# Altium integrated library TI Amplifiers and Linear Special Function Amplifier.IntLib: 708 symbols (part 14 of 47)
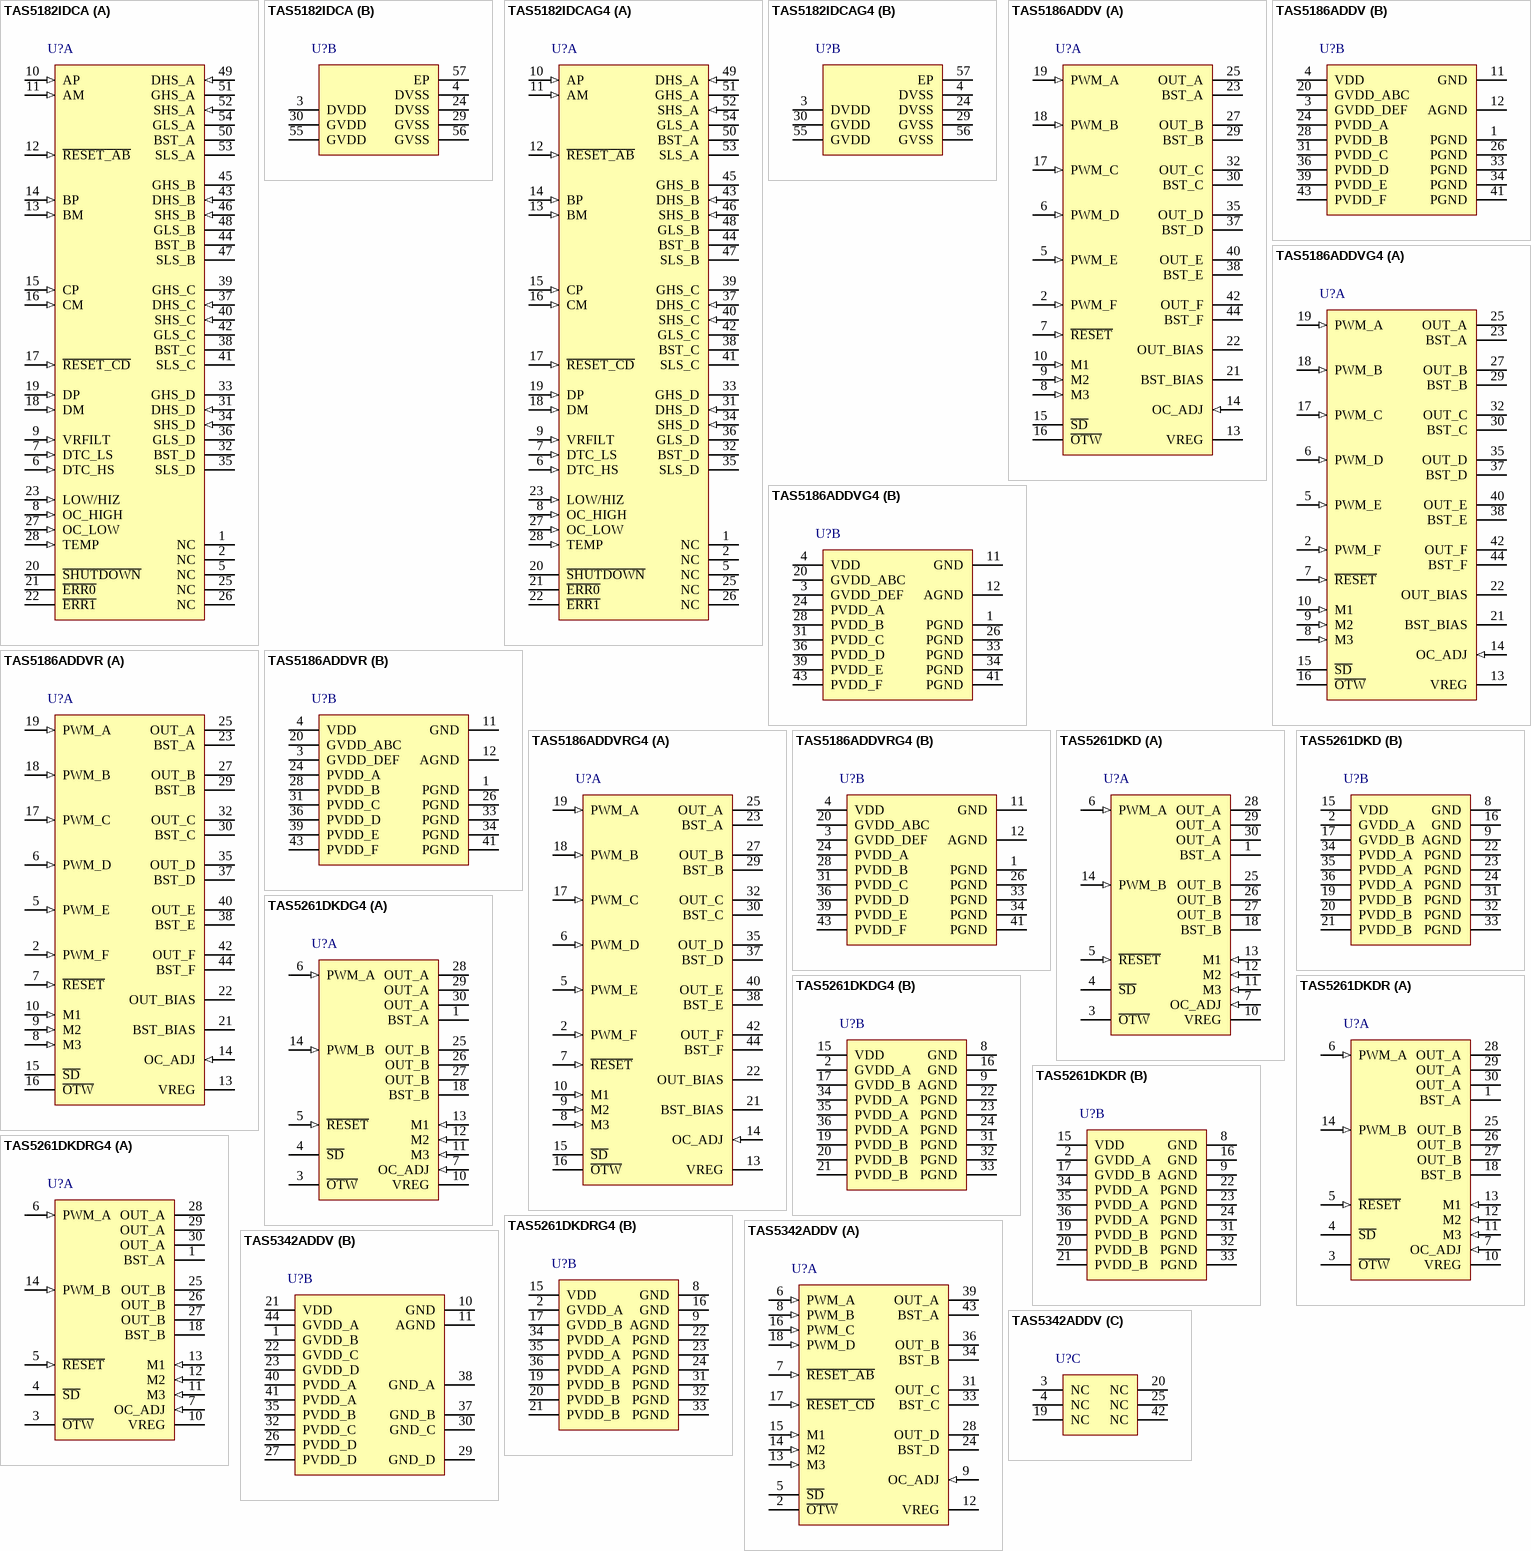
[diagram p52: symbols TAS5182IDCA to TAS5342ADDV]

## TAS5186ADDVRG4
designator U?
210 W (6-Channel) Digital Amplifier Power Stage, 0 to 70 degC, 44-pin SOP (DDV44), Green (RoHS & no Sb/Br); Manufacturer: Texas Instruments; PartNumber: TAS5186ADDVRG4; Analog Supply Max [V]: 13.2; Analog Supply Min [V]: 10.8; Input Type: PWM; Max. Number of Speaker Outputs: 6; SubFamily: Mid/High-Power Amplifier; DatasheetVersion: SLES156; PackageVersion: 4206011/G, 06/2011; PackageReference: DDV44-7600X3850TP; PackageDescription: 44-Pin Plastic Small Outline, Body 14 x 6.1 mm, Pitch 0.635 mm; Supplier 1: Digi-Key; Supplier Part Number 1: TAS5186ADDVRG4-ND; Supplier 2: Newark; Supplier Part Number 2: 67K8432; Supplier 3: Mouser; Supplier Part Number 3: 595-TAS5186ADDVRG4; Eco-Plan: Green (RoHS & no Sb/Br); Mounting Technology: Surface Mount; ComponentLink1Description: Manufacturer URL; ComponentLink1URL: http://www.ti.com/; ComponentLink2Description: Datasheet; ComponentLink2URL: http://www.ti.com/general/docs/lit/getliterature.tsp?genericPartNumber=TAS5186A&fileType=pdf; ComponentLink3Description: Package Specification; ComponentLink3URL: http://www.ti.com/lit/ds/symlink/tas5142.pdf
footprint TI-DDV44-7600X3850TP _N (SOP, 44-Leads, Body 14x6.1mm, Pitch 0.635mm, Thermal Pad 8.3x4.2mm, IPC Medium Density)
footprint TI-DDV44-7600X3850TP _L (SOP, 44-Leads, Body 14x6.1mm, Pitch 0.635mm, Thermal Pad 8.3x4.2mm, IPC High Density)
footprint TI-DDV44-7600X3850TP _M (SOP, 44-Leads, Body 14x6.1mm, Pitch 0.635mm, Thermal Pad 8.3x4.2mm, IPC Low Density)
part A pins: 2 PWM_F (in) "PWM input signal for half-bridge F", 5 PWM_E (in) "PWM input signal for half-bridge E", 6 PWM_D (in) "PWM input signal for half-bridge D", 7 ~{RESET} (in) "Reset signal (active-low logic)", 8 M3 (in) "Mode selection pin", 9 M2 (in) "Mode selection pin", 10 M1 (in) "Mode selection pin", 13 VREG "Digital regulator supply filter pin, output", 14 OC_ADJ (in) "Overcurrent threshold programming pin, resistor to ground required", 15 ~{SD} (oc) "Shutdown open-drain output signal, active-low", 16 ~{OTW} (oc) "Overtemperature warning open-drain output signal, active-low", 17 PWM_C (in) "PWM input signal for half-bridge C", 18 PWM_B (in) "PWM input signal for half-bridge B", 19 PWM_A (in) "PWM input signal for half-bridge A", 21 BST_BIAS "BIAS bootstrap supply, external capacitor to OUT_BIAS required", 22 OUT_BIAS (hiz) "BIAS half-bridge output pin", 23 BST_A "HS bootstrap supply (BST), capacitor to OUT_A required", 25 OUT_A (hiz) "Output, half-bridge A, satellite", 27 OUT_B (hiz) "Output, half-bridge B, satellite", 29 BST_B "HS bootstrap supply (BST), external capacitor to OUT_B required", 30 BST_C "HS bootstrap supply (BST), external capacitor to OUT_C required", 32 OUT_C (hiz) "Output, half-bridge C, subwoofer", 35 OUT_D (hiz) "Output, half-bridge D, satellite", 37 BST_D "HS bootstrap supply (BST), external capacitor to OUT_D required", 38 BST_E "HS bootstrap supply (BST), external capacitor to OUT_E required", 40 OUT_E (hiz) "Output, half-bridge E, satellite", 42 OUT_F (hiz) "Output, half-bridge F, satellite", 44 BST_F "HS bootstrap supply (BST), external capacitor to OUT_F required"
part B pins: 1 PGND (power) "Power ground", 3 GVDD_DEF (power) "Gate drive voltage supply", 4 VDD (power) "Power supply for digital voltage regulator", 11 GND (power) "Chip ground", 12 AGND (power) "Analog ground", 20 GVDD_ABC (power) "Gate drive voltage supply", 24 PVDD_A (power) "Power-supply input for half-bridge A", 26 PGND (power) "Power ground", 28 PVDD_B (power) "Power-supply input for half-bridge B", 31 PVDD_C (power) "Power-supply input for half-bridge C", 33 PGND (power) "Power ground", 34 PGND (power) "Power ground", 36 PVDD_D (power) "Power-supply input for half-bridge D", 39 PVDD_E (power) "Power-supply input for half-bridge E", 41 PGND (power) "Power ground", 43 PVDD_F (power) "Power-supply input for half-bridge F"

## TAS5261DKD
designator U?
315 W Mono Digital Amplifier Power Stage, 0 to 70 degC, 36-pin SOP (DKD36), Green (RoHS & no Sb/Br); Manufacturer: Texas Instruments; PartNumber: TAS5261DKD; Analog Supply Max [V]: 13.2; Analog Supply Min [V]: 10.8; Input Type: PWM; SubFamily: Mid/High-Power Amplifier; DatasheetVersion: SLES188; PackageVersion: 4204421-2/K, 06/2012; PackageReference: DKD36; PackageDescription: 36-Pin Plastic Small Outline, Body 15.9 x 11 mm, Pitch 0.65 mm; Supplier 1: Digi-Key; Supplier Part Number 1: 296-20729-5-ND; Supplier 2: Farnell; Supplier Part Number 2: 1564920; Supplier 3: Newark; Supplier Part Number 3: 18M3142; Supplier 4: Mouser; Supplier Part Number 4: 595-TAS5261DKD; Eco-Plan: Green (RoHS & no Sb/Br); Mounting Technology: Surface Mount; ComponentLink1Description: Manufacturer URL; ComponentLink1URL: http://www.ti.com/; ComponentLink2Description: Datasheet; ComponentLink2URL: http://www.ti.com/general/docs/lit/getliterature.tsp?genericPartNumber=TAS5261&fileType=pdf; ComponentLink3Description: Package Specification; ComponentLink3URL: http://www.ti.com/lit/ds/symlink/tas5121i.pdf
footprint TI-DKD36_N (SOP, 36-Leads, Body 16x11.1mm, Pitch 0.65mm, IPC Medium Density)
footprint TI-DKD36_L (SOP, 36-Leads, Body 16x11.1mm, Pitch 0.65mm, IPC High Density)
footprint TI-DKD36_M (SOP, 36-Leads, Body 16x11.1mm, Pitch 0.65mm, IPC Low Density)
part A pins: 1 BST_A "Bootstrap, A side", 3 ~{OTW} (oc) "Overtemperature warning. Open drain, active low.", 4 ~{SD} (oc) "Shutdown. Open drain, active low.", 5 ~{RESET} (in) "Reset. Active low.", 6 PWM_A (in) "PWM for half-bridge A", 7 OC_ADJ (in) "Overcurrent threshold programming", 10 VREG "Internal voltage regulator", 11 M3 (in) "Reserved", 12 M2 (in) "Mode-selection 2 (MSB)", 13 M1 (in) "Mode-selection 1 (LSB)", 14 PWM_B (in) "PWM Input for half-bridge B", 18 BST_B "Bootstrap, B side", 25 OUT_B (hiz) "Output, half-bridge B", 26 OUT_B (hiz) "Output, half-bridge B", 27 OUT_B (hiz) "Output, half-bridge B", 28 OUT_A (hiz) "Output, half-bridge A", 29 OUT_A (hiz) "Output, half-bridge A", 30 OUT_A (hiz) "Output, half-bridge A"
part B pins: 2 GVDD_A (power) "Gate-drive voltage supply, A side", 8 GND (power) "Power ground", 9 AGND (power) "Analog ground", 15 VDD (power) "Input power supply", 16 GND (power) "Power ground", 17 GVDD_B (power) "Gate-drive voltage supply, B side", 19 PVDD_B (power) "PVDD supply for half-bridge B", 20 PVDD_B (power) "PVDD supply for half-bridge B", 21 PVDD_B (power) "PVDD supply for half-bridge B", 22 PGND (power) "Power ground", 23 PGND (power) "Power ground", 24 PGND (power) "Power ground", 31 PGND (power) "Power ground", 32 PGND (power) "Power ground", 33 PGND (power) "Power ground", 34 PVDD_A (power) "PVDD supply for half-bridge A", 35 PVDD_A (power) "PVDD supply for half-bridge A", 36 PVDD_A (power) "PVDD supply for half-bridge A"

## TAS5261DKDG4
designator U?
315 W Mono Digital Amplifier Power Stage, 0 to 70 degC, 36-pin SOP (DKD36), Green (RoHS & no Sb/Br); Manufacturer: Texas Instruments; PartNumber: TAS5261DKDG4; Analog Supply Max [V]: 13.2; Analog Supply Min [V]: 10.8; Input Type: PWM; SubFamily: Mid/High-Power Amplifier; DatasheetVersion: SLES188; PackageVersion: 4204421-2/K, 06/2012; PackageReference: DKD36; PackageDescription: 36-Pin Plastic Small Outline, Body 15.9 x 11 mm, Pitch 0.65 mm; Supplier 1: Digi-Key; Supplier Part Number 1: TAS5261DKDG4-ND; Supplier 2: Newark; Supplier Part Number 2: 18M3143; Supplier 3: Mouser; Supplier Part Number 3: 595-TAS5261DKDG4; Eco-Plan: Green (RoHS & no Sb/Br); Mounting Technology: Surface Mount; ComponentLink1Description: Manufacturer URL; ComponentLink1URL: http://www.ti.com/; ComponentLink2Description: Datasheet; ComponentLink2URL: http://www.ti.com/general/docs/lit/getliterature.tsp?genericPartNumber=TAS5261&fileType=pdf; ComponentLink3Description: Package Specification; ComponentLink3URL: http://www.ti.com/lit/ds/symlink/tas5121i.pdf
footprint TI-DKD36_N (SOP, 36-Leads, Body 16x11.1mm, Pitch 0.65mm, IPC Medium Density)
footprint TI-DKD36_L (SOP, 36-Leads, Body 16x11.1mm, Pitch 0.65mm, IPC High Density)
footprint TI-DKD36_M (SOP, 36-Leads, Body 16x11.1mm, Pitch 0.65mm, IPC Low Density)
part A pins: 1 BST_A "Bootstrap, A side", 3 ~{OTW} (oc) "Overtemperature warning. Open drain, active low.", 4 ~{SD} (oc) "Shutdown. Open drain, active low.", 5 ~{RESET} (in) "Reset. Active low.", 6 PWM_A (in) "PWM for half-bridge A", 7 OC_ADJ (in) "Overcurrent threshold programming", 10 VREG "Internal voltage regulator", 11 M3 (in) "Reserved", 12 M2 (in) "Mode-selection 2 (MSB)", 13 M1 (in) "Mode-selection 1 (LSB)", 14 PWM_B (in) "PWM Input for half-bridge B", 18 BST_B "Bootstrap, B side", 25 OUT_B (hiz) "Output, half-bridge B", 26 OUT_B (hiz) "Output, half-bridge B", 27 OUT_B (hiz) "Output, half-bridge B", 28 OUT_A (hiz) "Output, half-bridge A", 29 OUT_A (hiz) "Output, half-bridge A", 30 OUT_A (hiz) "Output, half-bridge A"
part B pins: 2 GVDD_A (power) "Gate-drive voltage supply, A side", 8 GND (power) "Power ground", 9 AGND (power) "Analog ground", 15 VDD (power) "Input power supply", 16 GND (power) "Power ground", 17 GVDD_B (power) "Gate-drive voltage supply, B side", 19 PVDD_B (power) "PVDD supply for half-bridge B", 20 PVDD_B (power) "PVDD supply for half-bridge B", 21 PVDD_B (power) "PVDD supply for half-bridge B", 22 PGND (power) "Power ground", 23 PGND (power) "Power ground", 24 PGND (power) "Power ground", 31 PGND (power) "Power ground", 32 PGND (power) "Power ground", 33 PGND (power) "Power ground", 34 PVDD_A (power) "PVDD supply for half-bridge A", 35 PVDD_A (power) "PVDD supply for half-bridge A", 36 PVDD_A (power) "PVDD supply for half-bridge A"

## TAS5261DKDR
designator U?
315 W Mono Digital Amplifier Power Stage, 0 to 70 degC, 36-pin SOP (DKD36), Green (RoHS & no Sb/Br); Manufacturer: Texas Instruments; PartNumber: TAS5261DKDR; Analog Supply Max [V]: 13.2; Analog Supply Min [V]: 10.8; Input Type: PWM; SubFamily: Mid/High-Power Amplifier; DatasheetVersion: SLES188; PackageVersion: 4204421-2/K, 06/2012; PackageReference: DKD36; PackageDescription: 36-Pin Plastic Small Outline, Body 15.9 x 11 mm, Pitch 0.65 mm; Supplier 1: Digi-Key; Supplier Part Number 1: TAS5261DKDR-ND; Supplier 2: Mouser; Supplier Part Number 2: 595-TAS5261DKDR; Eco-Plan: Green (RoHS & no Sb/Br); Mounting Technology: Surface Mount; ComponentLink1Description: Manufacturer URL; ComponentLink1URL: http://www.ti.com/; ComponentLink2Description: Datasheet; ComponentLink2URL: http://www.ti.com/general/docs/lit/getliterature.tsp?genericPartNumber=TAS5261&fileType=pdf; ComponentLink3Description: Package Specification; ComponentLink3URL: http://www.ti.com/lit/ds/symlink/tas5121i.pdf
footprint TI-DKD36_N (SOP, 36-Leads, Body 16x11.1mm, Pitch 0.65mm, IPC Medium Density)
footprint TI-DKD36_L (SOP, 36-Leads, Body 16x11.1mm, Pitch 0.65mm, IPC High Density)
footprint TI-DKD36_M (SOP, 36-Leads, Body 16x11.1mm, Pitch 0.65mm, IPC Low Density)
part A pins: 1 BST_A "Bootstrap, A side", 3 ~{OTW} (oc) "Overtemperature warning. Open drain, active low.", 4 ~{SD} (oc) "Shutdown. Open drain, active low.", 5 ~{RESET} (in) "Reset. Active low.", 6 PWM_A (in) "PWM for half-bridge A", 7 OC_ADJ (in) "Overcurrent threshold programming", 10 VREG "Internal voltage regulator", 11 M3 (in) "Reserved", 12 M2 (in) "Mode-selection 2 (MSB)", 13 M1 (in) "Mode-selection 1 (LSB)", 14 PWM_B (in) "PWM Input for half-bridge B", 18 BST_B "Bootstrap, B side", 25 OUT_B (hiz) "Output, half-bridge B", 26 OUT_B (hiz) "Output, half-bridge B", 27 OUT_B (hiz) "Output, half-bridge B", 28 OUT_A (hiz) "Output, half-bridge A", 29 OUT_A (hiz) "Output, half-bridge A", 30 OUT_A (hiz) "Output, half-bridge A"
part B pins: 2 GVDD_A (power) "Gate-drive voltage supply, A side", 8 GND (power) "Power ground", 9 AGND (power) "Analog ground", 15 VDD (power) "Input power supply", 16 GND (power) "Power ground", 17 GVDD_B (power) "Gate-drive voltage supply, B side", 19 PVDD_B (power) "PVDD supply for half-bridge B", 20 PVDD_B (power) "PVDD supply for half-bridge B", 21 PVDD_B (power) "PVDD supply for half-bridge B", 22 PGND (power) "Power ground", 23 PGND (power) "Power ground", 24 PGND (power) "Power ground", 31 PGND (power) "Power ground", 32 PGND (power) "Power ground", 33 PGND (power) "Power ground", 34 PVDD_A (power) "PVDD supply for half-bridge A", 35 PVDD_A (power) "PVDD supply for half-bridge A", 36 PVDD_A (power) "PVDD supply for half-bridge A"

## TAS5261DKDRG4
designator U?
315 W Mono Digital Amplifier Power Stage, 0 to 70 degC, 36-pin SOP (DKD36), Green (RoHS & no Sb/Br); Manufacturer: Texas Instruments; PartNumber: TAS5261DKDRG4; Analog Supply Max [V]: 13.2; Analog Supply Min [V]: 10.8; Input Type: PWM; SubFamily: Mid/High-Power Amplifier; DatasheetVersion: SLES188; PackageVersion: 4204421-2/K, 06/2012; PackageReference: DKD36; PackageDescription: 36-Pin Plastic Small Outline, Body 15.9 x 11 mm, Pitch 0.65 mm; Supplier 1: Digi-Key; Supplier Part Number 1: TAS5261DKDRG4-ND; Supplier 2: Mouser; Supplier Part Number 2: 595-TAS5261DKDRG4; Eco-Plan: Green (RoHS & no Sb/Br); Mounting Technology: Surface Mount; ComponentLink1Description: Manufacturer URL; ComponentLink1URL: http://www.ti.com/; ComponentLink2Description: Datasheet; ComponentLink2URL: http://www.ti.com/general/docs/lit/getliterature.tsp?genericPartNumber=TAS5261&fileType=pdf; ComponentLink3Description: Package Specification; ComponentLink3URL: http://www.ti.com/lit/ds/symlink/tas5121i.pdf
footprint TI-DKD36_N (SOP, 36-Leads, Body 16x11.1mm, Pitch 0.65mm, IPC Medium Density)
footprint TI-DKD36_L (SOP, 36-Leads, Body 16x11.1mm, Pitch 0.65mm, IPC High Density)
footprint TI-DKD36_M (SOP, 36-Leads, Body 16x11.1mm, Pitch 0.65mm, IPC Low Density)
part A pins: 1 BST_A "Bootstrap, A side", 3 ~{OTW} (oc) "Overtemperature warning. Open drain, active low.", 4 ~{SD} (oc) "Shutdown. Open drain, active low.", 5 ~{RESET} (in) "Reset. Active low.", 6 PWM_A (in) "PWM for half-bridge A", 7 OC_ADJ (in) "Overcurrent threshold programming", 10 VREG "Internal voltage regulator", 11 M3 (in) "Reserved", 12 M2 (in) "Mode-selection 2 (MSB)", 13 M1 (in) "Mode-selection 1 (LSB)", 14 PWM_B (in) "PWM Input for half-bridge B", 18 BST_B "Bootstrap, B side", 25 OUT_B (hiz) "Output, half-bridge B", 26 OUT_B (hiz) "Output, half-bridge B", 27 OUT_B (hiz) "Output, half-bridge B", 28 OUT_A (hiz) "Output, half-bridge A", 29 OUT_A (hiz) "Output, half-bridge A", 30 OUT_A (hiz) "Output, half-bridge A"
part B pins: 2 GVDD_A (power) "Gate-drive voltage supply, A side", 8 GND (power) "Power ground", 9 AGND (power) "Analog ground", 15 VDD (power) "Input power supply", 16 GND (power) "Power ground", 17 GVDD_B (power) "Gate-drive voltage supply, B side", 19 PVDD_B (power) "PVDD supply for half-bridge B", 20 PVDD_B (power) "PVDD supply for half-bridge B", 21 PVDD_B (power) "PVDD supply for half-bridge B", 22 PGND (power) "Power ground", 23 PGND (power) "Power ground", 24 PGND (power) "Power ground", 31 PGND (power) "Power ground", 32 PGND (power) "Power ground", 33 PGND (power) "Power ground", 34 PVDD_A (power) "PVDD supply for half-bridge A", 35 PVDD_A (power) "PVDD supply for half-bridge A", 36 PVDD_A (power) "PVDD supply for half-bridge A"

## TAS5342ADDV
designator U?
100 W Stereo Digital Amplifier Power Stage, 0 to 70 degC, 44-pin SOP (DDV44), Green (RoHS & no Sb/Br); Manufacturer: Texas Instruments; PartNumber: TAS5342ADDV; Analog Supply Max [V]: 13.2; Analog Supply Min [V]: 10.8; Input Type: PWM; Max. Number of Speaker Outputs: 4; SubFamily: Mid/High-Power Amplifier; DatasheetVersion: SLAS623; PackageVersion: 4206011/G, 06/2011; PackageReference: DDV44-7600X3850TP; PackageDescription: 44-Pin Plastic Small Outline, Body 14 x 6.1 mm, Pitch 0.635 mm; Supplier 1: Digi-Key; Supplier Part Number 1: TAS5342ADDV-ND; Supplier 2: Mouser; Supplier Part Number 2: 595-TAS5342ADDV; Eco-Plan: Green (RoHS & no Sb/Br); Mounting Technology: Surface Mount; ComponentLink1Description: Manufacturer URL; ComponentLink1URL: http://www.ti.com/; ComponentLink2Description: Datasheet; ComponentLink2URL: http://www.ti.com/general/docs/lit/getliterature.tsp?genericPartNumber=TAS5342A&fileType=pdf; ComponentLink3Description: Package Specification; ComponentLink3URL: http://www.ti.com/lit/ds/symlink/tas5142.pdf
footprint TI-DDV44-7600X3850TP _N (SOP, 44-Leads, Body 14x6.1mm, Pitch 0.635mm, Thermal Pad 8.3x4.2mm, IPC Medium Density)
footprint TI-DDV44-7600X3850TP _L (SOP, 44-Leads, Body 14x6.1mm, Pitch 0.635mm, Thermal Pad 8.3x4.2mm, IPC High Density)
footprint TI-DDV44-7600X3850TP _M (SOP, 44-Leads, Body 14x6.1mm, Pitch 0.635mm, Thermal Pad 8.3x4.2mm, IPC Low Density)
part A pins: 2 ~{OTW} (oc) "Overtemperature warning signal, open-drain, active-low", 5 ~{SD} (oc) "Shutdown signal, open-drain, active-low", 6 PWM_A (in) "Input signal for half-bridge A", 7 ~{RESET_AB} (in) "Reset signal for half-bridge A and half-bridge B, active-low", 8 PWM_B (in) "Input signal for half-bridge B", 9 OC_ADJ (in) "Analog overcurrent programming pin", 12 VREG, 13 M3 (in) "Mode selection pin", 14 M2 (in) "Mode selection pin", 15 M1 (in) "Mode selection pin", 16 PWM_C (in) "Input signal for half-bridge C", 17 ~{RESET_CD} (in) "Reset signal for half-bridge C and half-bridge D, active-low", 18 PWM_D (in) "Input signal for half-bridge D", 24 BST_D "Bootstrap pin", 28 OUT_D (hiz) "Output, half-bridge D", 31 OUT_C (hiz) "Output, half-bridge C", 33 BST_C "Bootstrap pin, C-Side", 34 BST_B "Bootstrap pin, B-Side", 36 OUT_B (hiz) "Output, half-bridge B", 39 OUT_A (hiz) "Output, half-bridge A", 43 BST_A "Bootstrap pin, A-Side"
part B pins: 1 GVDD_B (power) "Gate-drive voltage supply", 10 GND (power) "Ground", 11 AGND (power) "Analog ground", 21 VDD (power) "Input power supply", 22 GVDD_C (power) "Gate-drive voltage supply", 23 GVDD_D (power) "Gate-drive voltage supply", 26 PVDD_D (power) "Power supply input for half-bridge D", 27 PVDD_D (power) "Power supply input for half-bridge D", 29 GND_D (power) "Power ground for half-bridge D", 30 GND_C (power) "Power ground for half-bridge C", 32 PVDD_C (power) "Power supply input for half-bridge C", 35 PVDD_B (power) "Power supply input for half-bridge B", 37 GND_B (power) "Power ground for half-bridge B", 38 GND_A (power) "Power ground for half-bridge A", 40 PVDD_A (power) "Power supply input for half-bridge A", 41 PVDD_A (power) "Power supply input for half-bridge A", 44 GVDD_A (power) "Gate-drive voltage supply; A-Side"
part C pins: 3 NC "No connect. Pins may be grounded.", 4 NC "No connect. Pins may be grounded.", 19 NC "No connect. Pins may be grounded.", 20 NC "No connect. Pins may be grounded.", 25 NC "No connect. Pins may be grounded.", 42 NC "No connect. Pins may be grounded."

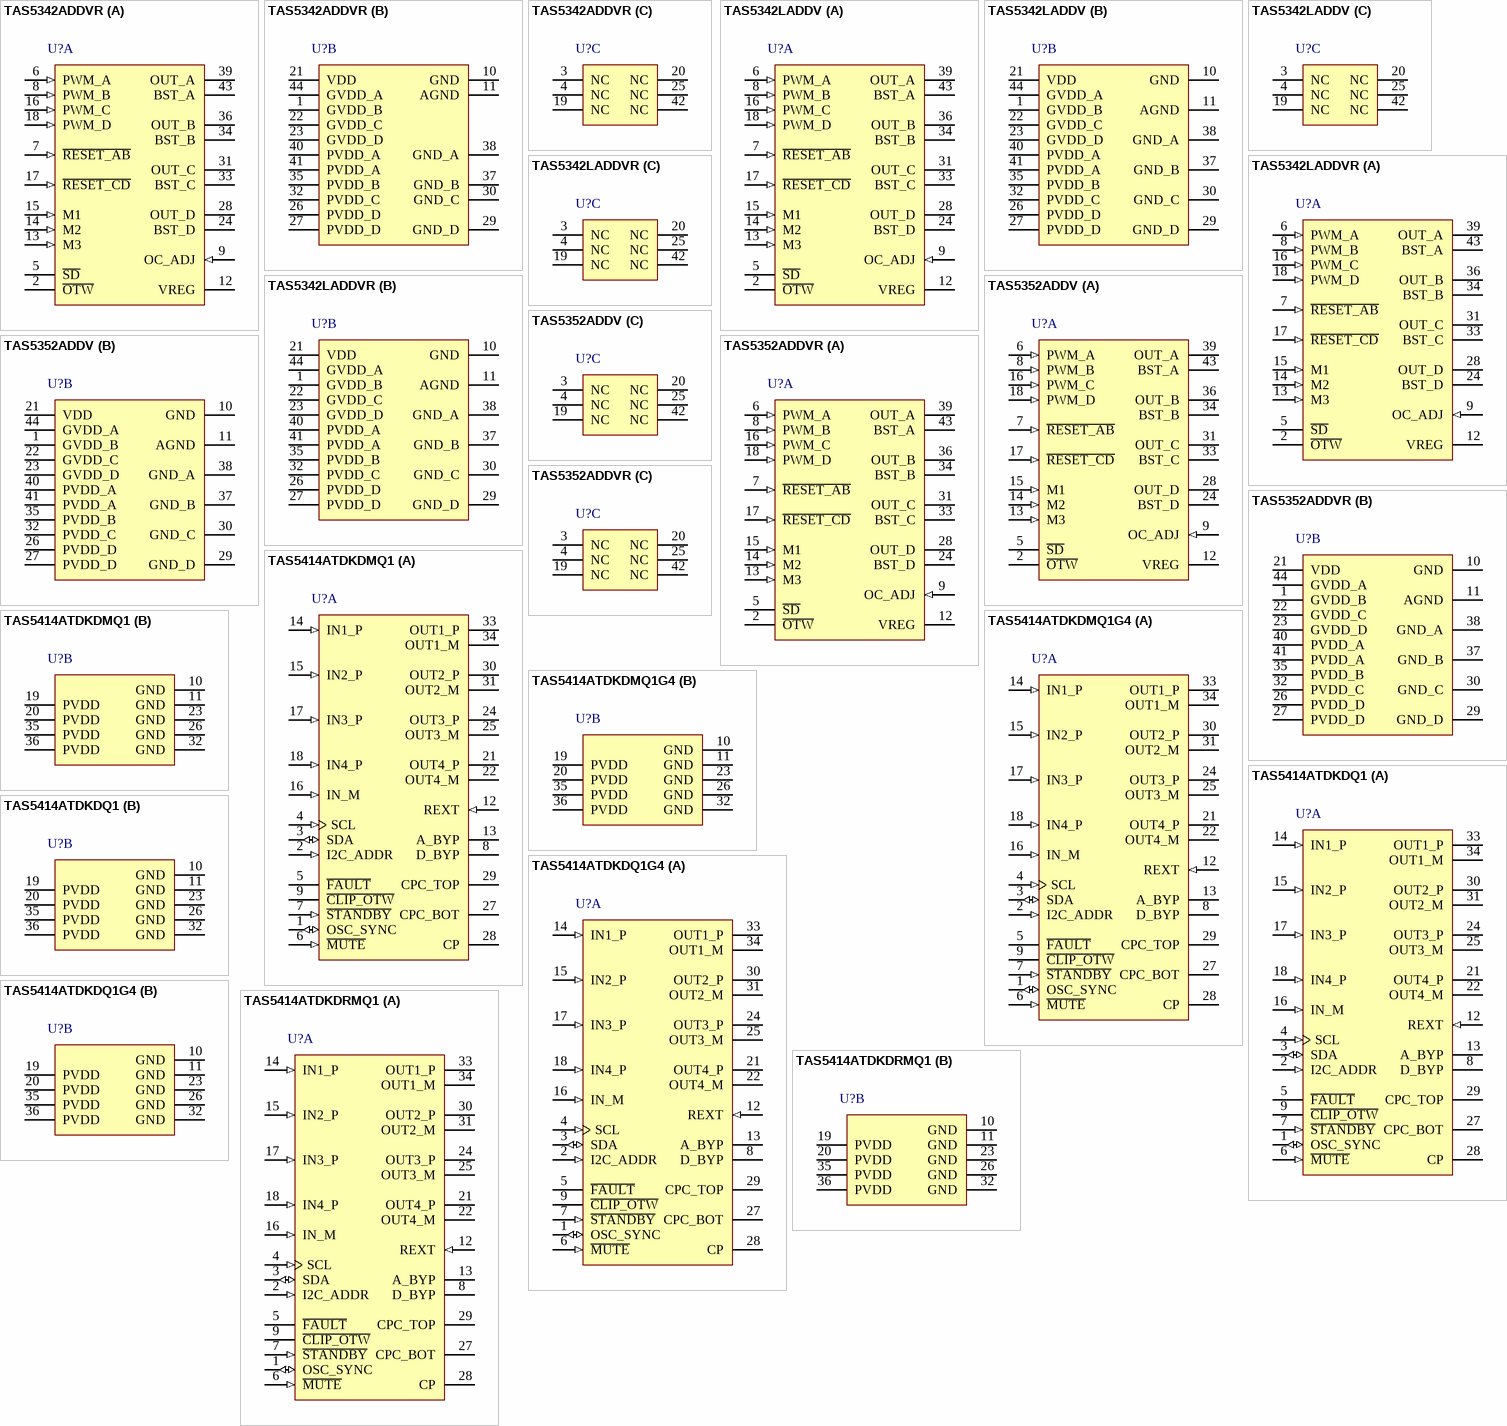
[diagram p13: symbols TAS5342ADDVR to TAS5414ATDKDRMQ1]

## TAS5342ADDVR
designator U?
100 W Stereo Digital Amplifier Power Stage, 0 to 70 degC, 44-pin SOP (DDV44), Green (RoHS & no Sb/Br); Manufacturer: Texas Instruments; PartNumber: TAS5342ADDVR; Analog Supply Max [V]: 13.2; Analog Supply Min [V]: 10.8; Input Type: PWM; Max. Number of Speaker Outputs: 4; SubFamily: Mid/High-Power Amplifier; DatasheetVersion: SLAS623; PackageVersion: 4206011/G, 06/2011; PackageReference: DDV44-7600X3850TP; PackageDescription: 44-Pin Plastic Small Outline, Body 14 x 6.1 mm, Pitch 0.635 mm; Supplier 1: Digi-Key; Supplier Part Number 1: 296-29863-2-ND; Supplier 2: Digi-Key; Supplier Part Number 2: 296-29863-1-ND; Supplier 3: Digi-Key; Supplier Part Number 3: 296-29863-6-ND; Supplier 4: Mouser; Supplier Part Number 4: 595-TAS5342ADDVR; Eco-Plan: Green (RoHS & no Sb/Br); Mounting Technology: Surface Mount; ComponentLink1Description: Manufacturer URL; ComponentLink1URL: http://www.ti.com/; ComponentLink2Description: Datasheet; ComponentLink2URL: http://www.ti.com/general/docs/lit/getliterature.tsp?genericPartNumber=TAS5342A&fileType=pdf; ComponentLink3Description: Package Specification; ComponentLink3URL: http://www.ti.com/lit/ds/symlink/tas5142.pdf
footprint TI-DDV44-7600X3850TP _N (SOP, 44-Leads, Body 14x6.1mm, Pitch 0.635mm, Thermal Pad 8.3x4.2mm, IPC Medium Density)
footprint TI-DDV44-7600X3850TP _L (SOP, 44-Leads, Body 14x6.1mm, Pitch 0.635mm, Thermal Pad 8.3x4.2mm, IPC High Density)
footprint TI-DDV44-7600X3850TP _M (SOP, 44-Leads, Body 14x6.1mm, Pitch 0.635mm, Thermal Pad 8.3x4.2mm, IPC Low Density)
part A pins: 2 ~{OTW} (oc) "Overtemperature warning signal, open-drain, active-low", 5 ~{SD} (oc) "Shutdown signal, open-drain, active-low", 6 PWM_A (in) "Input signal for half-bridge A", 7 ~{RESET_AB} (in) "Reset signal for half-bridge A and half-bridge B, active-low", 8 PWM_B (in) "Input signal for half-bridge B", 9 OC_ADJ (in) "Analog overcurrent programming pin", 12 VREG, 13 M3 (in) "Mode selection pin", 14 M2 (in) "Mode selection pin", 15 M1 (in) "Mode selection pin", 16 PWM_C (in) "Input signal for half-bridge C", 17 ~{RESET_CD} (in) "Reset signal for half-bridge C and half-bridge D, active-low", 18 PWM_D (in) "Input signal for half-bridge D", 24 BST_D "Bootstrap pin", 28 OUT_D (hiz) "Output, half-bridge D", 31 OUT_C (hiz) "Output, half-bridge C", 33 BST_C "Bootstrap pin, C-Side", 34 BST_B "Bootstrap pin, B-Side", 36 OUT_B (hiz) "Output, half-bridge B", 39 OUT_A (hiz) "Output, half-bridge A", 43 BST_A "Bootstrap pin, A-Side"
part B pins: 1 GVDD_B (power) "Gate-drive voltage supply", 10 GND (power) "Ground", 11 AGND (power) "Analog ground", 21 VDD (power) "Input power supply", 22 GVDD_C (power) "Gate-drive voltage supply", 23 GVDD_D (power) "Gate-drive voltage supply", 26 PVDD_D (power) "Power supply input for half-bridge D", 27 PVDD_D (power) "Power supply input for half-bridge D", 29 GND_D (power) "Power ground for half-bridge D", 30 GND_C (power) "Power ground for half-bridge C", 32 PVDD_C (power) "Power supply input for half-bridge C", 35 PVDD_B (power) "Power supply input for half-bridge B", 37 GND_B (power) "Power ground for half-bridge B", 38 GND_A (power) "Power ground for half-bridge A", 40 PVDD_A (power) "Power supply input for half-bridge A", 41 PVDD_A (power) "Power supply input for half-bridge A", 44 GVDD_A (power) "Gate-drive voltage supply; A-Side"
part C pins: 3 NC "No connect. Pins may be grounded.", 4 NC "No connect. Pins may be grounded.", 19 NC "No connect. Pins may be grounded.", 20 NC "No connect. Pins may be grounded.", 25 NC "No connect. Pins may be grounded.", 42 NC "No connect. Pins may be grounded."

## TAS5342LADDV
designator U?
100 W Stereo Digital Amplifier Power Stage, 0 to 70 degC, 44-pin SOP (DDV44), Green (RoHS & no Sb/Br); Manufacturer: Texas Instruments; PartNumber: TAS5342LADDV; Analog Supply Max [V]: 13.2; Analog Supply Min [V]: 10.8; Input Type: PWM; Max. Number of Speaker Outputs: 4; SubFamily: Mid/High-Power Amplifier; DatasheetVersion: SLAS624; PackageVersion: 4206011/G, 06/2011; PackageReference: DDV44-7600X3850TP; PackageDescription: 44-Pin Plastic Small Outline, Body 14 x 6.1 mm, Pitch 0.635 mm; Supplier 1: Digi-Key; Supplier Part Number 1: 296-34185-5-ND; Supplier 2: Newark; Supplier Part Number 2: 45P8191; Supplier 3: Mouser; Supplier Part Number 3: 595-TAS5342LADDV; Eco-Plan: Green (RoHS & no Sb/Br); Mounting Technology: Surface Mount; ComponentLink1Description: Manufacturer URL; ComponentLink1URL: http://www.ti.com/; ComponentLink2Description: Datasheet; ComponentLink2URL: http://www.ti.com/general/docs/lit/getliterature.tsp?genericPartNumber=TAS5342LA&fileType=pdf; ComponentLink3Description: Package Specification; ComponentLink3URL: http://www.ti.com/lit/ds/symlink/tas5142.pdf
footprint TI-DDV44-7600X3850TP _N (SOP, 44-Leads, Body 14x6.1mm, Pitch 0.635mm, Thermal Pad 8.3x4.2mm, IPC Medium Density)
footprint TI-DDV44-7600X3850TP _L (SOP, 44-Leads, Body 14x6.1mm, Pitch 0.635mm, Thermal Pad 8.3x4.2mm, IPC High Density)
footprint TI-DDV44-7600X3850TP _M (SOP, 44-Leads, Body 14x6.1mm, Pitch 0.635mm, Thermal Pad 8.3x4.2mm, IPC Low Density)
part A pins: 2 ~{OTW} (oc) "Overtemperature warning signal, open-drain, active-low", 5 ~{SD} (oc) "Shutdown signal, open-drain, active-low", 6 PWM_A (in) "PWM Input signal for half-bridge A", 7 ~{RESET_AB} (in) "Reset signal for half-bridge A and half-bridge B, active-low", 8 PWM_B (in) "PWM Input signal for half-bridge B", 9 OC_ADJ (in) "Analog overcurrent programming pin", 12 VREG "Internal voltage regulator", 13 M3 (in) "Mode selection pin (MSB)", 14 M2 (in) "Mode selection pin", 15 M1 (in) "Mode selection pin (LSB)", 16 PWM_C (in) "PWM Input signal for half-bridge C", 17 ~{RESET_CD} (in) "Reset signal for half-bridge C and half-bridge D, active-low", 18 PWM_D (in) "PWM Input signal for half-bridge D", 24 BST_D "Bootstrap pin, D-Side", 28 OUT_D (hiz) "Output, half-bridge D", 31 OUT_C (hiz) "Output, half-bridge C", 33 BST_C "Bootstrap pin, C-Side", 34 BST_B "Bootstrap pin, B-Side", 36 OUT_B (hiz) "Output, half-bridge B", 39 OUT_A (hiz) "Output, half-bridge A", 43 BST_A "Bootstrap pin, A-Side"
part B pins: 1 GVDD_B (power) "Gate-drive voltage supply; B-Side", 10 GND (power) "Ground", 11 AGND (power) "Analog ground", 21 VDD (power) "Input power supply", 22 GVDD_C (power) "Gate-drive voltage supply; C-Side", 23 GVDD_D (power) "Gate-drive voltage supply; D-Side", 26 PVDD_D (power) "Power supply input for half-bridge D", 27 PVDD_D (power) "Power supply input for half-bridge D", 29 GND_D (power) "Power ground for half-bridge D", 30 GND_C (power) "Power ground for half-bridge C", 32 PVDD_C (power) "Power supply input for half-bridge C", 35 PVDD_B (power) "Power supply input for half-bridge B", 37 GND_B (power) "Power ground for half-bridge B", 38 GND_A (power) "Power ground for half-bridge A", 40 PVDD_A (power) "Power supply input for half-bridge A", 41 PVDD_A (power) "Power supply input for half-bridge A", 44 GVDD_A (power) "Gate-drive voltage supply; A-Side"
part C pins: 3 NC "No connect. Pins may be grounded.", 4 NC "No connect. Pins may be grounded.", 19 NC "No connect. Pins may be grounded.", 20 NC "No connect. Pins may be grounded.", 25 NC "No connect. Pins may be grounded.", 42 NC "No connect. Pins may be grounded."

## TAS5342LADDVR
designator U?
100 W Stereo Digital Amplifier Power Stage, 0 to 70 degC, 44-pin SOP (DDV44), Green (RoHS & no Sb/Br); Manufacturer: Texas Instruments; PartNumber: TAS5342LADDVR; Analog Supply Max [V]: 13.2; Analog Supply Min [V]: 10.8; Input Type: PWM; Max. Number of Speaker Outputs: 4; SubFamily: Mid/High-Power Amplifier; DatasheetVersion: SLAS624; PackageVersion: 4206011/G, 06/2011; PackageReference: DDV44-7600X3850TP; PackageDescription: 44-Pin Plastic Small Outline, Body 14 x 6.1 mm, Pitch 0.635 mm; Supplier 1: Digi-Key; Supplier Part Number 1: TAS5342LADDVR-ND; Supplier 2: Mouser; Supplier Part Number 2: 595-TAS5342LADDVR; Eco-Plan: Green (RoHS & no Sb/Br); Mounting Technology: Surface Mount; ComponentLink1Description: Manufacturer URL; ComponentLink1URL: http://www.ti.com/; ComponentLink2Description: Datasheet; ComponentLink2URL: http://www.ti.com/general/docs/lit/getliterature.tsp?genericPartNumber=TAS5342LA&fileType=pdf; ComponentLink3Description: Package Specification; ComponentLink3URL: http://www.ti.com/lit/ds/symlink/tas5142.pdf
footprint TI-DDV44-7600X3850TP _N (SOP, 44-Leads, Body 14x6.1mm, Pitch 0.635mm, Thermal Pad 8.3x4.2mm, IPC Medium Density)
footprint TI-DDV44-7600X3850TP _L (SOP, 44-Leads, Body 14x6.1mm, Pitch 0.635mm, Thermal Pad 8.3x4.2mm, IPC High Density)
footprint TI-DDV44-7600X3850TP _M (SOP, 44-Leads, Body 14x6.1mm, Pitch 0.635mm, Thermal Pad 8.3x4.2mm, IPC Low Density)
part A pins: 2 ~{OTW} (oc) "Overtemperature warning signal, open-drain, active-low", 5 ~{SD} (oc) "Shutdown signal, open-drain, active-low", 6 PWM_A (in) "PWM Input signal for half-bridge A", 7 ~{RESET_AB} (in) "Reset signal for half-bridge A and half-bridge B, active-low", 8 PWM_B (in) "PWM Input signal for half-bridge B", 9 OC_ADJ (in) "Analog overcurrent programming pin", 12 VREG "Internal voltage regulator", 13 M3 (in) "Mode selection pin (MSB)", 14 M2 (in) "Mode selection pin", 15 M1 (in) "Mode selection pin (LSB)", 16 PWM_C (in) "PWM Input signal for half-bridge C", 17 ~{RESET_CD} (in) "Reset signal for half-bridge C and half-bridge D, active-low", 18 PWM_D (in) "PWM Input signal for half-bridge D", 24 BST_D "Bootstrap pin, D-Side", 28 OUT_D (hiz) "Output, half-bridge D", 31 OUT_C (hiz) "Output, half-bridge C", 33 BST_C "Bootstrap pin, C-Side", 34 BST_B "Bootstrap pin, B-Side", 36 OUT_B (hiz) "Output, half-bridge B", 39 OUT_A (hiz) "Output, half-bridge A", 43 BST_A "Bootstrap pin, A-Side"
part B pins: 1 GVDD_B (power) "Gate-drive voltage supply; B-Side", 10 GND (power) "Ground", 11 AGND (power) "Analog ground", 21 VDD (power) "Input power supply", 22 GVDD_C (power) "Gate-drive voltage supply; C-Side", 23 GVDD_D (power) "Gate-drive voltage supply; D-Side", 26 PVDD_D (power) "Power supply input for half-bridge D", 27 PVDD_D (power) "Power supply input for half-bridge D", 29 GND_D (power) "Power ground for half-bridge D", 30 GND_C (power) "Power ground for half-bridge C", 32 PVDD_C (power) "Power supply input for half-bridge C", 35 PVDD_B (power) "Power supply input for half-bridge B", 37 GND_B (power) "Power ground for half-bridge B", 38 GND_A (power) "Power ground for half-bridge A", 40 PVDD_A (power) "Power supply input for half-bridge A", 41 PVDD_A (power) "Power supply input for half-bridge A", 44 GVDD_A (power) "Gate-drive voltage supply; A-Side"
part C pins: 3 NC "No connect. Pins may be grounded.", 4 NC "No connect. Pins may be grounded.", 19 NC "No connect. Pins may be grounded.", 20 NC "No connect. Pins may be grounded.", 25 NC "No connect. Pins may be grounded.", 42 NC "No connect. Pins may be grounded."

## TAS5352ADDV
designator U?
125 W Stereo Digital Amplifier Power Stage, 0 to 70 degC, 44-pin SOP (DDV44), Green (RoHS & no Sb/Br); Manufacturer: Texas Instruments; PartNumber: TAS5352ADDV; Analog Supply Max [V]: 13.2; Analog Supply Min [V]: 10.8; Input Type: PWM; Max. Number of Speaker Outputs: 4; SubFamily: Mid/High-Power Amplifier; DatasheetVersion: SLES239; PackageVersion: 4206011/G, 06/2011; PackageReference: DDV44-7600X3850TP; PackageDescription: 44-Pin Plastic Small Outline, Body 14 x 6.1 mm, Pitch 0.635 mm; Supplier 1: Digi-Key; Supplier Part Number 1: 296-34187-5-ND; Supplier 2: Newark; Supplier Part Number 2: 45P8193; Supplier 3: Mouser; Supplier Part Number 3: 595-TAS5352ADDV; Eco-Plan: Green (RoHS & no Sb/Br); Mounting Technology: Surface Mount; ComponentLink1Description: Manufacturer URL; ComponentLink1URL: http://www.ti.com/; ComponentLink2Description: Datasheet; ComponentLink2URL: http://www.ti.com/general/docs/lit/getliterature.tsp?genericPartNumber=TAS5352A&fileType=pdf; ComponentLink3Description: Package Specification; ComponentLink3URL: http://www.ti.com/lit/ds/symlink/tas5142.pdf
footprint TI-DDV44-7600X3850TP _N (SOP, 44-Leads, Body 14x6.1mm, Pitch 0.635mm, Thermal Pad 8.3x4.2mm, IPC Medium Density)
footprint TI-DDV44-7600X3850TP _L (SOP, 44-Leads, Body 14x6.1mm, Pitch 0.635mm, Thermal Pad 8.3x4.2mm, IPC High Density)
footprint TI-DDV44-7600X3850TP _M (SOP, 44-Leads, Body 14x6.1mm, Pitch 0.635mm, Thermal Pad 8.3x4.2mm, IPC Low Density)
part A pins: 2 ~{OTW} (oc) "Overtemperature warning signal, open-drain, active-low", 5 ~{SD} (oc) "Shutdown signal, open-drain, active-low", 6 PWM_A (in) "PWM Input signal for half-bridge A", 7 ~{RESET_AB} (in) "Reset signal for half-bridge A and half-bridge B, active-low", 8 PWM_B (in) "PWM Input signal for half-bridge B", 9 OC_ADJ (in) "Analog overcurrent programming pin", 12 VREG "Internal voltage regulator", 13 M3 (in) "Mode selection pin (MSB)", 14 M2 (in) "Mode selection pin", 15 M1 (in) "Mode selection pin (LSB)", 16 PWM_C (in) "PWM Input signal for half-bridge C", 17 ~{RESET_CD} (in) "Reset signal for half-bridge C and half-bridge D, active-low", 18 PWM_D (in) "PWM Input signal for half-bridge D", 24 BST_D "Bootstrap pin, D-Side", 28 OUT_D (hiz) "Output, half-bridge D", 31 OUT_C (hiz) "Output, half-bridge C", 33 BST_C "Bootstrap pin, C-Side", 34 BST_B "Bootstrap pin, B-Side", 36 OUT_B (hiz) "Output, half-bridge B", 39 OUT_A (hiz) "Output, half-bridge A", 43 BST_A "Bootstrap pin, A-Side"
part B pins: 1 GVDD_B (power) "Gate-drive voltage supply; B-Side", 10 GND (power) "Ground", 11 AGND (power) "Analog ground", 21 VDD (power) "Input power supply", 22 GVDD_C (power) "Gate-drive voltage supply; C-Side", 23 GVDD_D (power) "Gate-drive voltage supply; D-Side", 26 PVDD_D (power) "Power supply input for half-bridge D", 27 PVDD_D (power) "Power supply input for half-bridge D", 29 GND_D (power) "Power ground for half-bridge D", 30 GND_C (power) "Power ground for half-bridge C", 32 PVDD_C (power) "Power supply input for half-bridge C", 35 PVDD_B (power) "Power supply input for half-bridge B", 37 GND_B (power) "Power ground for half-bridge B", 38 GND_A (power) "Power ground for half-bridge A", 40 PVDD_A (power) "Power supply input for half-bridge A", 41 PVDD_A (power) "Power supply input for half-bridge A", 44 GVDD_A (power) "Gate-drive voltage supply; A-Side"
part C pins: 3 NC "No connect. Pins may be grounded.", 4 NC "No connect. Pins may be grounded.", 19 NC "No connect. Pins may be grounded.", 20 NC "No connect. Pins may be grounded.", 25 NC "No connect. Pins may be grounded.", 42 NC "No connect. Pins may be grounded."

## TAS5352ADDVR
designator U?
125 W Stereo Digital Amplifier Power Stage, 0 to 70 degC, 44-pin SOP (DDV44), Green (RoHS & no Sb/Br); Manufacturer: Texas Instruments; PartNumber: TAS5352ADDVR; Analog Supply Max [V]: 13.2; Analog Supply Min [V]: 10.8; Input Type: PWM; Max. Number of Speaker Outputs: 4; SubFamily: Mid/High-Power Amplifier; DatasheetVersion: SLES239; PackageVersion: 4206011/G, 06/2011; PackageReference: DDV44-7600X3850TP; PackageDescription: 44-Pin Plastic Small Outline, Body 14 x 6.1 mm, Pitch 0.635 mm; Supplier 1: Digi-Key; Supplier Part Number 1: TAS5352ADDVR-ND; Supplier 2: Newark; Supplier Part Number 2: 45P8194; Supplier 3: Mouser; Supplier Part Number 3: 595-TAS5352ADDVR; Eco-Plan: Green (RoHS & no Sb/Br); Mounting Technology: Surface Mount; ComponentLink1Description: Manufacturer URL; ComponentLink1URL: http://www.ti.com/; ComponentLink2Description: Datasheet; ComponentLink2URL: http://www.ti.com/general/docs/lit/getliterature.tsp?genericPartNumber=TAS5352A&fileType=pdf; ComponentLink3Description: Package Specification; ComponentLink3URL: http://www.ti.com/lit/ds/symlink/tas5142.pdf
footprint TI-DDV44-7600X3850TP _N (SOP, 44-Leads, Body 14x6.1mm, Pitch 0.635mm, Thermal Pad 8.3x4.2mm, IPC Medium Density)
footprint TI-DDV44-7600X3850TP _L (SOP, 44-Leads, Body 14x6.1mm, Pitch 0.635mm, Thermal Pad 8.3x4.2mm, IPC High Density)
footprint TI-DDV44-7600X3850TP _M (SOP, 44-Leads, Body 14x6.1mm, Pitch 0.635mm, Thermal Pad 8.3x4.2mm, IPC Low Density)
part A pins: 2 ~{OTW} (oc) "Overtemperature warning signal, open-drain, active-low", 5 ~{SD} (oc) "Shutdown signal, open-drain, active-low", 6 PWM_A (in) "PWM Input signal for half-bridge A", 7 ~{RESET_AB} (in) "Reset signal for half-bridge A and half-bridge B, active-low", 8 PWM_B (in) "PWM Input signal for half-bridge B", 9 OC_ADJ (in) "Analog overcurrent programming pin", 12 VREG "Internal voltage regulator", 13 M3 (in) "Mode selection pin (MSB)", 14 M2 (in) "Mode selection pin", 15 M1 (in) "Mode selection pin (LSB)", 16 PWM_C (in) "PWM Input signal for half-bridge C", 17 ~{RESET_CD} (in) "Reset signal for half-bridge C and half-bridge D, active-low", 18 PWM_D (in) "PWM Input signal for half-bridge D", 24 BST_D "Bootstrap pin, D-Side", 28 OUT_D (hiz) "Output, half-bridge D", 31 OUT_C (hiz) "Output, half-bridge C", 33 BST_C "Bootstrap pin, C-Side", 34 BST_B "Bootstrap pin, B-Side", 36 OUT_B (hiz) "Output, half-bridge B", 39 OUT_A (hiz) "Output, half-bridge A", 43 BST_A "Bootstrap pin, A-Side"
part B pins: 1 GVDD_B (power) "Gate-drive voltage supply; B-Side", 10 GND (power) "Ground", 11 AGND (power) "Analog ground", 21 VDD (power) "Input power supply", 22 GVDD_C (power) "Gate-drive voltage supply; C-Side", 23 GVDD_D (power) "Gate-drive voltage supply; D-Side", 26 PVDD_D (power) "Power supply input for half-bridge D", 27 PVDD_D (power) "Power supply input for half-bridge D", 29 GND_D (power) "Power ground for half-bridge D", 30 GND_C (power) "Power ground for half-bridge C", 32 PVDD_C (power) "Power supply input for half-bridge C", 35 PVDD_B (power) "Power supply input for half-bridge B", 37 GND_B (power) "Power ground for half-bridge B", 38 GND_A (power) "Power ground for half-bridge A", 40 PVDD_A (power) "Power supply input for half-bridge A", 41 PVDD_A (power) "Power supply input for half-bridge A", 44 GVDD_A (power) "Gate-drive voltage supply; A-Side"
part C pins: 3 NC "No connect. Pins may be grounded.", 4 NC "No connect. Pins may be grounded.", 19 NC "No connect. Pins may be grounded.", 20 NC "No connect. Pins may be grounded.", 25 NC "No connect. Pins may be grounded.", 42 NC "No connect. Pins may be grounded."

## TAS5414ATDKDMQ1
designator U?
4-Channel Automotive Digital Amplifier, -40 to 105 degC, 36-pin SOP (DKD36), Green (RoHS & no Sb/Br); Manufacturer: Texas Instruments; PartNumber: TAS5414ATDKDMQ1; Analog Supply Max [V]: 26.5; Analog Supply Min [V]: 6; Input Type: Analog; Max. Number of Speaker Outputs: 4; SubFamily: Mid/High-Power Amplifier; DatasheetVersion: SLOS535C; PackageVersion: 4204421-2/K, 06/2012; PackageReference: DKD36; PackageDescription: 36-Pin Plastic Small Outline, Body 15.9 x 11 mm, Pitch 0.65 mm; Supplier 1: Digi-Key; Supplier Part Number 1: 296-22042-5-ND; Supplier 2: Newark; Supplier Part Number 2: 52M6048; Supplier 3: Mouser; Supplier Part Number 3: 595-TAS5414ATDKDMQ1; Eco-Plan: Green (RoHS & no Sb/Br); Power Stage Supply Min(V): 6; Mounting Technology: Surface Mount; ComponentLink1Description: Manufacturer URL; ComponentLink1URL: http://www.ti.com/; ComponentLink2Description: Datasheet; ComponentLink2URL: http://www.ti.com/general/docs/lit/getliterature.tsp?genericPartNumber=TAS5414A&fileType=pdf; ComponentLink3Description: Package Specification; ComponentLink3URL: http://www.ti.com/lit/ds/symlink/tas5121i.pdf
footprint TI-DKD36_N (SOP, 36-Leads, Body 16x11.1mm, Pitch 0.65mm, IPC Medium Density)
footprint TI-DKD36_L (SOP, 36-Leads, Body 16x11.1mm, Pitch 0.65mm, IPC High Density)
footprint TI-DKD36_M (SOP, 36-Leads, Body 16x11.1mm, Pitch 0.65mm, IPC Low Density)
part A pins: 1 OSC_SYNC (io) "Oscillator sync input from master or output to slave amplifiers (20 MHz divided by 5, 6, or 7)", 2 I2C_ADDR (in) "I2C address bit", 3 SDA (io) "I2C data I/O for communication with system I2C master", 4 SCL (in) "I2C clock input from system I2C master", 5 ~{FAULT} (oc) "Global fault output (open drain): UV, OV, OTSD, OCSD, DC", 6 ~{MUTE} (in) "Gain ramp control: mute (low), play (high)", 7 ~{STANDBY} (in) "Active-low STANDBY pin. Standby (low), power up (high)", 8 D_BYP "Bypass pin for DVDD regulator output", 9 ~{CLIP_OTW} (oc) "Open-drain CLIP, OTW, or logical OR of the CLIP and OTW outputs. It also reports tweeter detection during tweeter mode.", 12 REXT (in) "Precision resistor pin to set analog reference", 13 A_BYP "Bypass pin for the AVDD analog regulator", 14 IN1_P (in) "Non-inverting analog input for channel 1", 15 IN2_P (in) "Non-inverting analog input for channel 2", 16 IN_M (in) "Signal return for the 4 analog channel inputs (TAS5414A only)", 17 IN3_P (in) "Non-inverting analog input for channel 3", 18 IN4_P (in) "Non-inverting analog input for channel 4", 21 OUT4_P (hiz) "+ polarity output for bridge 4", 22 OUT4_M (hiz) "- polarity output for bridge 4", 24 OUT3_P (hiz) "+ polarity output for bridge 3", 25 OUT3_M (hiz) "- polarity output for bridge 3", 27 CPC_BOT "Bottom of flying capacitor for charge pump", 28 CP "Top of main storage capacitor for charge pump (bottom goes to PVDD)", 29 CPC_TOP "Top of flying capacitor for charge pump", 30 OUT2_P (hiz) "+ polarity output for bridge 2", 31 OUT2_M (hiz) "- polarity output for bridge 2", 33 OUT1_P (hiz) "+ polarity output for bridge 1", 34 OUT1_M (hiz) "- polarity output for bridge 1"
part B pins: 10 GND (power) "Ground", 11 GND (power) "Ground", 19 PVDD (power) "PVDD supply", 20 PVDD (power) "PVDD supply", 23 GND (power) "Ground", 26 GND (power) "Ground", 32 GND (power) "Ground", 35 PVDD (power) "PVDD supply", 36 PVDD (power) "PVDD supply"

## TAS5414ATDKDMQ1G4
designator U?
4-Channel Automotive Digital Amplifier, -40 to 105 degC, 36-pin SOP (DKD36), Green (RoHS & no Sb/Br); Manufacturer: Texas Instruments; PartNumber: TAS5414ATDKDMQ1G4; Analog Supply Max [V]: 26.5; Analog Supply Min [V]: 6; Input Type: Analog; Max. Number of Speaker Outputs: 4; SubFamily: Mid/High-Power Amplifier; DatasheetVersion: SLOS535C; PackageVersion: 4204421-2/K, 06/2012; PackageReference: DKD36; PackageDescription: 36-Pin Plastic Small Outline, Body 15.9 x 11 mm, Pitch 0.65 mm; Supplier 1: Digi-Key; Supplier Part Number 1: TAS5414ATDKDMQ1G4-ND; Supplier 2: Mouser; Supplier Part Number 2: 595-TA5414ATDKDMQ1G4; Eco-Plan: Green (RoHS & no Sb/Br); Power Stage Supply Min(V): 6; Mounting Technology: Surface Mount; ComponentLink1Description: Manufacturer URL; ComponentLink1URL: http://www.ti.com/; ComponentLink2Description: Datasheet; ComponentLink2URL: http://www.ti.com/general/docs/lit/getliterature.tsp?genericPartNumber=TAS5414A&fileType=pdf; ComponentLink3Description: Package Specification; ComponentLink3URL: http://www.ti.com/lit/ds/symlink/tas5121i.pdf
footprint TI-DKD36_N (SOP, 36-Leads, Body 16x11.1mm, Pitch 0.65mm, IPC Medium Density)
footprint TI-DKD36_L (SOP, 36-Leads, Body 16x11.1mm, Pitch 0.65mm, IPC High Density)
footprint TI-DKD36_M (SOP, 36-Leads, Body 16x11.1mm, Pitch 0.65mm, IPC Low Density)
part A pins: 1 OSC_SYNC (io) "Oscillator sync input from master or output to slave amplifiers (20 MHz divided by 5, 6, or 7)", 2 I2C_ADDR (in) "I2C address bit", 3 SDA (io) "I2C data I/O for communication with system I2C master", 4 SCL (in) "I2C clock input from system I2C master", 5 ~{FAULT} (oc) "Global fault output (open drain): UV, OV, OTSD, OCSD, DC", 6 ~{MUTE} (in) "Gain ramp control: mute (low), play (high)", 7 ~{STANDBY} (in) "Active-low STANDBY pin. Standby (low), power up (high)", 8 D_BYP "Bypass pin for DVDD regulator output", 9 ~{CLIP_OTW} (oc) "Open-drain CLIP, OTW, or logical OR of the CLIP and OTW outputs. It also reports tweeter detection during tweeter mode.", 12 REXT (in) "Precision resistor pin to set analog reference", 13 A_BYP "Bypass pin for the AVDD analog regulator", 14 IN1_P (in) "Non-inverting analog input for channel 1", 15 IN2_P (in) "Non-inverting analog input for channel 2", 16 IN_M (in) "Signal return for the 4 analog channel inputs (TAS5414A only)", 17 IN3_P (in) "Non-inverting analog input for channel 3", 18 IN4_P (in) "Non-inverting analog input for channel 4", 21 OUT4_P (hiz) "+ polarity output for bridge 4", 22 OUT4_M (hiz) "- polarity output for bridge 4", 24 OUT3_P (hiz) "+ polarity output for bridge 3", 25 OUT3_M (hiz) "- polarity output for bridge 3", 27 CPC_BOT "Bottom of flying capacitor for charge pump", 28 CP "Top of main storage capacitor for charge pump (bottom goes to PVDD)", 29 CPC_TOP "Top of flying capacitor for charge pump", 30 OUT2_P (hiz) "+ polarity output for bridge 2", 31 OUT2_M (hiz) "- polarity output for bridge 2", 33 OUT1_P (hiz) "+ polarity output for bridge 1", 34 OUT1_M (hiz) "- polarity output for bridge 1"
part B pins: 10 GND (power) "Ground", 11 GND (power) "Ground", 19 PVDD (power) "PVDD supply", 20 PVDD (power) "PVDD supply", 23 GND (power) "Ground", 26 GND (power) "Ground", 32 GND (power) "Ground", 35 PVDD (power) "PVDD supply", 36 PVDD (power) "PVDD supply"

## TAS5414ATDKDQ1
designator U?
4-Channel Automotive Digital Amplifier, -40 to 105 degC, 36-pin SOP (DKD36), Green (RoHS & no Sb/Br); Manufacturer: Texas Instruments; PartNumber: TAS5414ATDKDQ1; Analog Supply Max [V]: 26.5; Analog Supply Min [V]: 6; Input Type: Analog; Max. Number of Speaker Outputs: 4; SubFamily: Mid/High-Power Amplifier; DatasheetVersion: SLOS535C; PackageVersion: 4204421-2/K, 06/2012; PackageReference: DKD36; PackageDescription: 36-Pin Plastic Small Outline, Body 15.9 x 11 mm, Pitch 0.65 mm; Supplier 1: Digi-Key; Supplier Part Number 1: 296-22674-5-ND; Supplier 2: Mouser; Supplier Part Number 2: 595-TAS5414ATDKDQ1; Eco-Plan: Green (RoHS & no Sb/Br); Power Stage Supply Min(V): 6; Mounting Technology: Surface Mount; ComponentLink1Description: Manufacturer URL; ComponentLink1URL: http://www.ti.com/; ComponentLink2Description: Datasheet; ComponentLink2URL: http://www.ti.com/general/docs/lit/getliterature.tsp?genericPartNumber=TAS5414A&fileType=pdf; ComponentLink3Description: Package Specification; ComponentLink3URL: http://www.ti.com/lit/ds/symlink/tas5121i.pdf
footprint TI-DKD36_N (SOP, 36-Leads, Body 16x11.1mm, Pitch 0.65mm, IPC Medium Density)
footprint TI-DKD36_L (SOP, 36-Leads, Body 16x11.1mm, Pitch 0.65mm, IPC High Density)
footprint TI-DKD36_M (SOP, 36-Leads, Body 16x11.1mm, Pitch 0.65mm, IPC Low Density)
part A pins: 1 OSC_SYNC (io) "Oscillator sync input from master or output to slave amplifiers (20 MHz divided by 5, 6, or 7)", 2 I2C_ADDR (in) "I2C address bit", 3 SDA (io) "I2C data I/O for communication with system I2C master", 4 SCL (in) "I2C clock input from system I2C master", 5 ~{FAULT} (oc) "Global fault output (open drain): UV, OV, OTSD, OCSD, DC", 6 ~{MUTE} (in) "Gain ramp control: mute (low), play (high)", 7 ~{STANDBY} (in) "Active-low STANDBY pin. Standby (low), power up (high)", 8 D_BYP "Bypass pin for DVDD regulator output", 9 ~{CLIP_OTW} (oc) "Open-drain CLIP, OTW, or logical OR of the CLIP and OTW outputs. It also reports tweeter detection during tweeter mode.", 12 REXT (in) "Precision resistor pin to set analog reference", 13 A_BYP "Bypass pin for the AVDD analog regulator", 14 IN1_P (in) "Non-inverting analog input for channel 1", 15 IN2_P (in) "Non-inverting analog input for channel 2", 16 IN_M (in) "Signal return for the 4 analog channel inputs (TAS5414A only)", 17 IN3_P (in) "Non-inverting analog input for channel 3", 18 IN4_P (in) "Non-inverting analog input for channel 4", 21 OUT4_P (hiz) "+ polarity output for bridge 4", 22 OUT4_M (hiz) "- polarity output for bridge 4", 24 OUT3_P (hiz) "+ polarity output for bridge 3", 25 OUT3_M (hiz) "- polarity output for bridge 3", 27 CPC_BOT "Bottom of flying capacitor for charge pump", 28 CP "Top of main storage capacitor for charge pump (bottom goes to PVDD)", 29 CPC_TOP "Top of flying capacitor for charge pump", 30 OUT2_P (hiz) "+ polarity output for bridge 2", 31 OUT2_M (hiz) "- polarity output for bridge 2", 33 OUT1_P (hiz) "+ polarity output for bridge 1", 34 OUT1_M (hiz) "- polarity output for bridge 1"
part B pins: 10 GND (power) "Ground", 11 GND (power) "Ground", 19 PVDD (power) "PVDD supply", 20 PVDD (power) "PVDD supply", 23 GND (power) "Ground", 26 GND (power) "Ground", 32 GND (power) "Ground", 35 PVDD (power) "PVDD supply", 36 PVDD (power) "PVDD supply"